# Altium schematic symbol library Sensors.SCHLIB: 1 symbol
Pins are listed as number, name and electrical type; pins without a type are passive.

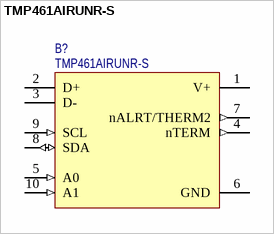
[diagram p0: symbol TMP461AIRUNR-S]

## TMP461AIRUNR-S
designator B?, comment value TMP461AIRUNR-S  (hidden comment: TMP461AIRUNT-S)
Temperature Sensor; Digital; Sensing Temperature Local/Remote -40/-67 to 125/191 DegC, WQFN10; Manufacturer: Texas Instruments; ComponentLink4Description: Supplier Info; ComponentLink4URL: https://www.digikey.de/products/en/sensors-transducers/temperature-sensors-analog-and-digital-output/518?k=TMP461&k=&pkeyword=TMP461&sv=0&pv7=243&sf=0&FV=ffe00206%2C402f7f&quantity=&ColumnSort=0&page=1&pageSize=25; ComponentLink5Description: DataSheet; ComponentLink5URL: http://www.ti.com/general/docs/suppproductinfo.tsp?distId=10&gotoUrl=http%3A%2F%2Fwww.ti.com%2Flit%2Fgpn%2Ftmp461; Manufacturer Part Number: TMP461AIRUNT-S; Supplier 1: Digi-Key; Supplier Part Number 1: 296-TMP461AIRUNT-SCT-ND
footprint TI-WQFN10 (Footprint not found)
pins: 1 V+, 2 D+, 3 D-, 4 nTERM (out), 5 A0 (in), 6 GND (power), 7 nALRT/THERM2 (out), 8 SDA (io), 9 SCL (in), 10 A1 (in)